# Altium footprint library cahrgebot_digital.PcbLib: 72 footprints (part 3 of 5)
Each footprint in its own frame and in the unit in brackets; x right, y up, seen from the top. Pads: shape width x height; smd on the part's side, far side on the other; paste and mask are expansions set on the pad; w line width, h text height; cw(c..) or ccw(c..) is an arc to the next point about the centre after c.
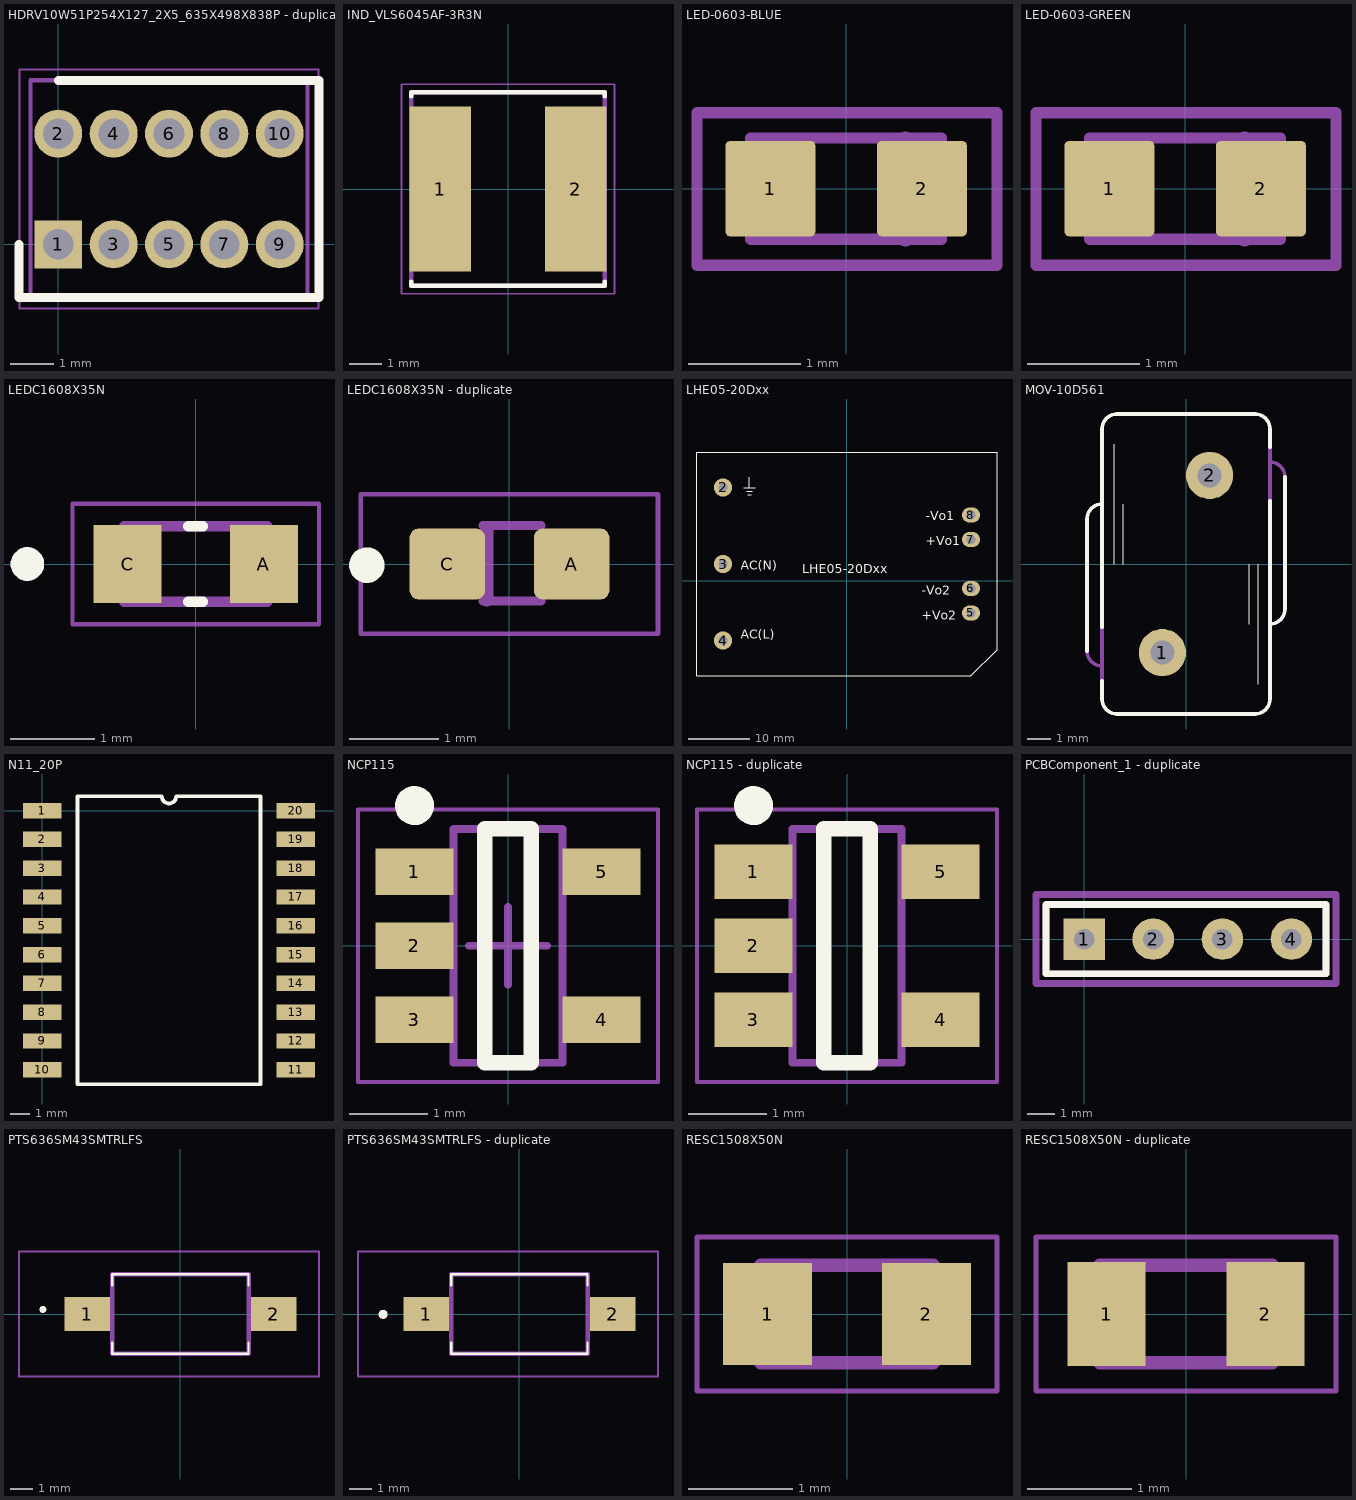
[diagram p2: the footprints below, top view; thin cyan lines are the x and y axes]

## HDRV10W51P254X127_2X5_635X498X838P - duplicate [mm]
height 2.54
pads (10):
  rect 1.1x1.1 hole 0.7 mask+0.076: 1(0,0)
  round 1.1 hole 0.7 mask+0.076: 2(0,2.54) 3(1.27,0) 4(1.27,2.54) 5(2.54,0) 6(2.54,2.54) 7(3.81,0) 8(3.81,2.54) 9(5.08,0) 10(5.08,2.54)
Top Overlay:
  lines w0.2: -0.9,0 -0.9,-1.22 5.98,-1.22 5.98,3.76 0,3.76
Top Component Outline:
  lines w0.1: -0.635,-1.22 -0.635,3.76 5.715,3.76 5.715,-1.22 -0.635,-1.22
Top Courtyard:
  lines w0.05: -0.885,-1.47 -0.885,4.01 5.965,4.01 5.965,-1.47 -0.885,-1.47
Top Designator:
  text ".Designator" at -0.828,4.428 h1.52
3D body "TMS-105-01-L-D.stp": height 8.38, standoff -3.05, extent -0.635,-1.22 5.715,3.76

## IND_VLS6045AF-3R3N [mm]
pads (2):
  rect 1.9x5.1 smd: 1(-2.1,0) 2(2.1,0)
Top Overlay:
  lines w0.127: -3,-2.87 -3,-3 3,-3 3,-2.87 ; -3,2.87 -3,3 3,3 3,2.87
Mechanical 13:
  lines w0.127: -3,-3 -3,3 3,3 3,-3 -3,-3
Mechanical 15:
  lines w0.05: -3.3,-3.25 -3.3,3.25 3.3,3.25 3.3,-3.25 -3.3,-3.25
3D body "step_temp.STEP": height 4.5, standoff 0, extent -3,-3 3,3

## LED-0603-BLUE [mm]
pads (2):
  rrect10% 0.8x0.85 smd: 1(-0.675,0) 2(0.675,0)
Top Component Outline:
  lines w0.1: -0.85,-0.45 0.85,-0.45 0.85,0.45 -0.85,0.45 -0.85,-0.45
  lines w0.152: 0.529,-0.438 0.529,0.431
Top Courtyard:
  lines w0.1: -1.329,-0.682 1.343,-0.682 1.343,0.676 -1.329,0.676 -1.329,-0.682
Top Designator:
  text ".Designator" at -3.23,1.058 h1.52
3D body "User Library-LED_0603_B.STEP": height 0.6, standoff 0, extent -0.927,-0.4 0.673,0.4

## LED-0603-GREEN [mm]
height 0.5
pads (2):
  rrect10% 0.8x0.85 smd: 1(-0.675,0) 2(0.675,0)
Top Component Outline:
  lines w0.1: -0.85,-0.45 -0.85,0.45 0.85,0.45 0.85,-0.45 -0.85,-0.45
  lines w0.152: 0.529,-0.438 0.529,0.431
Top Courtyard:
  lines w0.1: -1.329,-0.682 -1.329,0.676 1.343,0.676 1.343,-0.682 -1.329,-0.682
Top Designator:
  text ".Designator" at -3.23,1.058 h1.52
3D body "User Library-LED_0603_B.STEP": height 0.6, standoff 0, extent -0.927,-0.4 0.673,0.4

## LEDC1608X35N [mm]
pads (2):
  rect 0.81x0.93 smd: A(0.81,0) C(-0.81,0)
Top Overlay:
  circle w0.2: c-2,0 r0.1
  lines w0.127: -0.085,-0.45 0.085,-0.45 ; -0.085,0.45 0.085,0.45
Mechanical 13:
  circle w0.2: c-2,0 r0.1
  lines w0.127: -0.85,-0.45 -0.85,0.45 0.85,0.45 0.85,-0.45 -0.85,-0.45
Mechanical 15:
  lines w0.05: -1.465,-0.715 -1.465,0.715 1.465,0.715 1.465,-0.715 -1.465,-0.715
3D body "step_temp.STEP": height 0.8, standoff 0, extent -0.4,-0.8 0.4,0.8

## LEDC1608X35N - duplicate [mm]
height 0.45
pads (2):
  rrect25% 0.85x0.8 smd mask+0.076: A(0.7,0) C(-0.7,0)
Top Overlay:
  circle w0.2: c-1.606,-0.013 r0.1
Top Component Outline:
  lines w0.102: -0.3,-0.419 0.356,-0.419 ; -0.3,0.432 0.356,0.432
  lines w0.152: -0.256,-0.4 -0.256,0.4
Top Courtyard:
  lines w0.051: -1.673,-0.783 -1.673,0.783 1.673,0.783 1.673,-0.783 -1.673,-0.783
Top Designator:
  text ".Designator" at -3.434,1.207 h1.52
3D body "step_temp.STEP": height 0.8, standoff 0, extent -0.8,-0.4 0.8,0.4

## LHE05-20Dxx [mm]
height 20.5
pads (7):
  round 3 hole 1.5: 2(-20.172,15.244) 3(-20.172,2.744) 4(-20.172,-9.756)
  oval 3x2.5 hole 1.5: 5(20.328,-5.256) 6(20.328,-1.256) 7(20.328,6.744) 8(20.328,10.744)
Top Overlay:
  lines w0.175: -16.785,15.175 -14.944,15.175 ; -16.327,14.661 -15.403,14.661 ; -16.147,14.069 -15.583,14.069 ; -15.865,15.175 -15.865,16.886 ; -24.422,-15.506 -24.422,20.994 24.578,20.994 24.578,-11.236 20.308,-15.506 -24.422,-15.506
  text "-Vo1" at 12.962,9.879 h1.5
  text "+Vo2" at 12.319,-6.37 h1.5
  text "AC(L)" at -17.29,-9.433 h1.5
  text "AC(N)" at -17.29,1.782 h1.5
  text "LHE05-20Dxx" at -7.239,1.27 h1.5
  text "+Vo1" at 12.962,5.817 h1.5
  text "-Vo2" at 12.319,-2.308 h1.5

## MOV-10D561 [mm]
height 15.5
pads (2):
  round 2 hole 1.016 mask+0.076: 1(-1,-3.75) 2(1,3.75)
Top Overlay:
  lines w0.051: -3.048,0 -3.048,5.08 ; -2.667,0 -2.667,2.54 ; 2.667,-2.54 2.667,0 ; 3.048,-5.08 3.048,0
  lines w0.152: -4.191,-3.683 -4.191,1.905 cw(c-3.556,1.905) -3.556,2.54 ; -3.556,-4.953 -3.556,-5.715 ccw(c-2.921,-5.715) -2.921,-6.35 2.921,-6.35 ccw(c2.921,-5.715) 3.556,-5.715 3.556,2.667 ; -3.556,-2.667 -3.556,5.715 cw(c-2.921,5.715) -2.921,6.35 2.921,6.35 cw(c2.921,5.715) 3.556,5.715 3.556,4.953 ; 3.556,-2.54 ccw(c3.556,-1.905) 4.191,-1.905 4.191,3.683
Top Component Outline:
  lines w0.152: -3.556,-4.318 cw(c-3.556,-3.683) -4.191,-3.683 -4.191,1.905 cw(c-3.556,1.905) -3.556,2.54 ; 3.556,-2.54 ccw(c3.556,-1.905) 4.191,-1.905 4.191,3.683 ccw(c3.556,3.683) 3.556,4.318 ; -3.556,-5.715 ccw(c-2.921,-5.715) -2.921,-6.35 2.921,-6.35 ccw(c2.921,-5.715) 3.556,-5.715 3.556,2.667 3.556,4.953 3.556,5.715 ccw(c2.921,5.715) 2.921,6.35 -2.921,6.35 ccw(c-2.921,5.715) -3.556,5.715 -3.556,-2.667 -3.556,-4.953 -3.556,-5.715
Top Designator:
  text ".Designator" at -3.523,6.932 h1.52
3D body "step_temp.STEP": height 15.5, standoff -17, extent -2,-6.25 2,6.25

## N11_20P [mm]
pads (20):
  rect 2x0.8 smd: 1(0,0) 2(0,-1.5) 3(0,-3) 4(0,-4.5) 5(0,-6) 6(0,-7.5) 7(0,-9) 8(0,-10.5) 9(0,-12) 10(0,-13.5) 11(13.2,-13.5) 12(13.2,-12) 13(13.2,-10.5) 14(13.2,-9) 15(13.2,-7.5) 16(13.2,-6) 17(13.2,-4.5) 18(13.2,-3) 19(13.2,-1.5) 20(13.2,0)
Top Overlay:
  lines w0.2: 1.835,-14.25 1.835,0.75 6.225,0.75 ccw(c6.6,0.75) 6.975,0.75 11.365,0.75 11.365,-14.25 1.835,-14.25

## NCP115 [mm]
pads (5):
  rect 1x0.6 smd: 1(-1.2,0.95) 2(-1.2,0) 3(-1.2,-0.95) 4(1.2,-0.95) 5(1.2,0.95)
Top Overlay:
  circle w0.25: c-1.2,1.8 r0.125
  lines w0.2: -0.3,-1.5 -0.3,1.5 0.3,1.5 0.3,-1.5 -0.3,-1.5
Mechanical 13:
  lines w0.1: -0.7,-1.5 0.7,-1.5 0.7,1.5 -0.7,1.5 -0.7,-1.5
Mechanical 15:
  lines w0.05: -1.925,-1.75 1.925,-1.75 1.925,1.75 -1.925,1.75 -1.925,-1.75
  lines w0.1: -0.5,0 0.5,0 ; 0,-0.5 0,0.5
3D body: height 1.1, standoff 0.05, extent -0.7,-1.5 0.7,1.5

## NCP115 - duplicate [mm]
height 1.1
pads (5):
  rect 1x0.7 smd: 1(-1.2,0.95) 2(-1.2,0) 3(-1.2,-0.95) 4(1.2,-0.95) 5(1.2,0.95)
Top Overlay:
  circle w0.25: c-1.2,1.8 r0.125
  lines w0.2: -0.3,-1.5 -0.3,1.5 0.3,1.5 0.3,-1.5 -0.3,-1.5
Top Component Outline:
  lines w0.1: -0.7,-1.5 0.7,-1.5 0.7,1.5 -0.7,1.5 -0.7,-1.5
Top Courtyard:
  lines w0.05: -1.925,-1.75 1.925,-1.75 1.925,1.75 -1.925,1.75 -1.925,-1.75
Top Designator:
  text ".Designator" at -3.489,2.605 h1.52
3D body: height 1.1, standoff 0.05, extent -0.7,-1.5 0.7,1.5

## PCBComponent_1 - duplicate [mil]
pads (4):
  rect 60x60 hole 30: 1(0,0)
  round 60 hole 30: 2(100,0) 3(200,0) 4(300,0)
Top Overlay:
  lines w10: -55,-50 -55,50 350,50 350,-50 -55,-50
Top Component Outline:
  lines w10: -55,-50 -55,50 350,50 350,-50 -55,-50
Top Courtyard:
  lines w10: -69.71,-64.2 -69.71,64.75 364.59,64.75 364.59,-64.2 -69.71,-64.2
Top Designator:
  text ".Designator" at -69.79,88.35 h60

## PTS636SM43SMTRLFS [mm]
pads (2):
  rect 2x1.5 smd: 1(-4.1,0) 2(4.1,0)
Top Overlay:
  lines w0.1: -3,-1.75 -3,-1.25 -3,-1.75 ; -3,-1.75 3,-1.75 ; -3,-1.75 3,-1.75 ; -3,1.75 -3,1.25 -3,1.75 ; -3,1.75 3,1.75 ; -3,1.75 3,1.75 ; 3,-1.75 3,-1.25 3,-1.75 ; 3,1.75 3,1.25 3,1.75
  lines w0.2: -6.1,0.2 ccw(c-6.05,0.2) -6,0.2 ; -6.1,0.2 cw(c-6.05,0.2) -6,0.2 ; -6.1,0.2 ccw(c-6.05,0.2) -6,0.2
Mechanical 13:
  lines w0.2: -3,-1.75 3,-1.75 3,1.75 -3,1.75 -3,-1.75
Mechanical 15:
  lines w0.1: -7.1,-2.75 6.1,-2.75 6.1,2.75 -7.1,2.75 -7.1,-2.75
3D body "PTS636_SM43_SMTR_LFS.stp": height 4.3, standoff 0, extent -3.47,-1.75 3.63,1.75

## PTS636SM43SMTRLFS - duplicate [mm]
height 4.3
pads (2):
  rect 2x1.5 smd: 1(-4.1,0) 2(4.1,0)
Top Overlay:
  lines w0.1: -3,-1.75 -3,-1.25 -3,-1.75 ; -3,-1.75 3,-1.75 ; -3,-1.75 3,-1.75 ; -3,1.75 -3,1.25 -3,1.75 ; -3,1.75 3,1.75 ; -3,1.75 3,1.75 ; 3,-1.75 3,-1.25 3,-1.75 ; 3,1.75 3,1.25 3,1.75
  lines w0.2: -6.096,-0.016 ccw(c-5.996,-0.016) -5.896,-0.016 ; -6.096,-0.016 cw(c-5.996,-0.016) -5.896,-0.016 ; -6.096,-0.016 ccw(c-5.996,-0.016) -5.896,-0.016
Top Component Outline:
  lines w0.2: -3,-1.75 3,-1.75 3,1.75 -3,1.75 -3,-1.75
Top Courtyard:
  lines w0.1: -7.1,-2.75 6.1,-2.75 6.1,2.75 -7.1,2.75 -7.1,-2.75
Top Designator:
  text ".Designator" at -3.865,3.624 h1.52
3D body "PTS636_SM43_SMTR_LFS.stp": height 4.3, standoff 0, extent -3.55,-1.75 3.55,1.75

## RESC1508X50N [mm]
pads (2):
  rect 0.86x0.98 smd: 1(-0.765,0) 2(0.765,0)
Mechanical 13:
  lines w0.127: -0.83,-0.47 -0.83,0.47 0.83,0.47 0.83,-0.47 -0.83,-0.47
Mechanical 15:
  lines w0.05: -1.444,-0.74 -1.444,0.74 1.444,0.74 1.444,-0.74 -1.444,-0.74
3D body "step_temp.STEP": height 0.5, standoff 0, extent -0.775,-0.425 0.775,0.425

## RESC1508X50N - duplicate [mm]
height 0.5
pads (2):
  rect 0.75x1 smd: 1(-0.765,0) 2(0.765,0)
Top Component Outline:
  lines w0.127: -0.83,-0.47 -0.83,0.47 0.83,0.47 0.83,-0.47 -0.83,-0.47
Top Courtyard:
  lines w0.05: -1.444,-0.74 -1.444,0.74 1.444,0.74 1.444,-0.74 -1.444,-0.74
Top Designator:
  text ".Designator" at -3.522,1.327 h1.52
3D body "step_temp.STEP": height 0.5, standoff 0, extent -0.775,-0.425 0.775,0.425